# EAGLE library part EXP1.10-B (library usb-fpga-1)
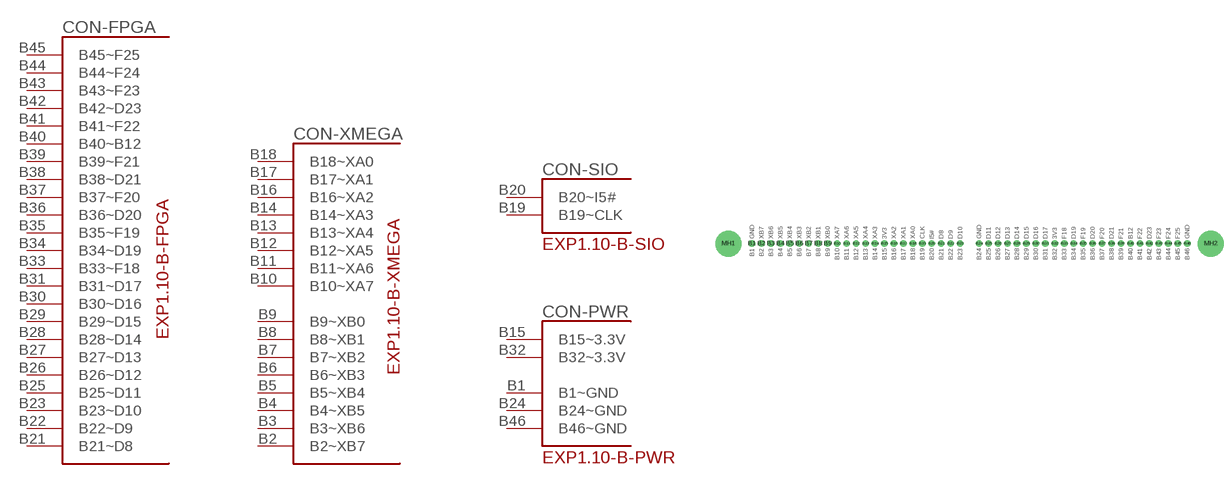
[diagram p6: symbol with the pads of EXP1.10-B; footprint EXP1.10-B]

Designator prefix CON; gates -PWR=EXP1.10-B-PWR -SIO=EXP1.10-B-SIO -FPGA=EXP1.10-B-FPGA -XMEGA=EXP1.10-B-XMEGA

## EXP1.10-B  [EXP1.10-B]
B1  -PWR:B1~GND
B2  -XMEGA:B2~XB7
B3  -XMEGA:B3~XB6
B4  -XMEGA:B4~XB5
B5  -XMEGA:B5~XB4
B6  -XMEGA:B6~XB3
B7  -XMEGA:B7~XB2
B8  -XMEGA:B8~XB1
B9  -XMEGA:B9~XB0
B10  -XMEGA:B10~XA7
B11  -XMEGA:B11~XA6
B12  -XMEGA:B12~XA5
B13  -XMEGA:B13~XA4
B14  -XMEGA:B14~XA3
B15  -PWR:B15~3.3V
B16  -XMEGA:B16~XA2
B17  -XMEGA:B17~XA1
B18  -XMEGA:B18~XA0
B19  -SIO:B19~CLK
B20  -SIO:B20~I5#
B21  -FPGA:B21~D8
B22  -FPGA:B22~D9
B23  -FPGA:B23~D10
B24  -PWR:B24~GND
B25  -FPGA:B25~D11
B26  -FPGA:B26~D12
B27  -FPGA:B27~D13
B28  -FPGA:B28~D14
B29  -FPGA:B29~D15
B30  -FPGA:B30~D16
B31  -FPGA:B31~D17
B32  -PWR:B32~3.3V
B33  -FPGA:B33~F18
B34  -FPGA:B34~D19
B35  -FPGA:B35~F19
B36  -FPGA:B36~D20
B37  -FPGA:B37~F20
B38  -FPGA:B38~D21
B39  -FPGA:B39~F21
B40  -FPGA:B40~B12
B41  -FPGA:B41~F22
B42  -FPGA:B42~D23
B43  -FPGA:B43~F23
B44  -FPGA:B44~F24
B45  -FPGA:B45~F25
B46  -PWR:B46~GND

## Footprint EXP1.10-B (pad centres in mm)
drill 1.2 round: B1 0,0; B2 2.54,0; B3 5.08,0; B4 7.62,0; B5 10.16,0; B6 12.7,0; B7 15.24,0; B8 17.78,0; B9 20.32,0; B10 22.86,0; B11 25.4,0; B12 27.94,0; B13 30.48,0; B14 33.02,0; B15 35.56,0; B16 38.1,0; B17 40.64,0; B18 43.18,0; B19 45.72,0; B20 48.26,0; B21 50.8,0; B22 53.34,0; B23 55.88,0; B24 60.96,0; B25 63.5,0; B26 66.04,0; B27 68.58,0; B28 71.12,0; B29 73.66,0; B30 76.2,0; B31 78.74,0; B32 81.28,0; B33 83.82,0; B34 86.36,0; B35 88.9,0; B36 91.44,0; B37 93.98,0; B38 96.52,0; B39 99.06,0; B40 101.6,0; B41 104.14,0; B42 106.68,0; B43 109.22,0; B44 111.76,0; B45 114.3,0; B46 116.84,0
drill 3.2 pad 7 round: MH1 -6.35,0; MH2 123.19,0